# EAGLE library part PBH2UEENAGX (library halcyonmod_Switches)
E-Switch DPDT Pushbutton, Latching, Right Angle Mount Datasheet <https://www.e-switch.com/system/asset/product_line/data_sheet/52/PBH.pdf> Drawing <http://spec_sheets.e-switch.com/specs/Q960000.pdf>
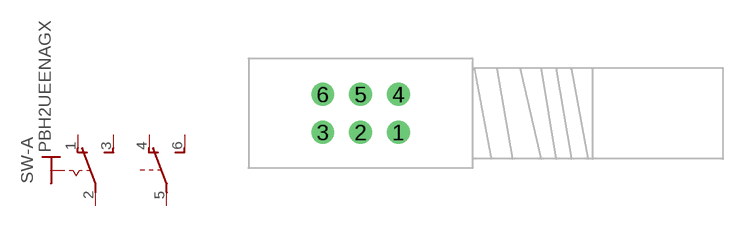
[diagram p6: symbol with the pads of PBH2UEENAGX; footprint PBH2UEENAGX]

Designator prefix SW; gates -A=KS-U -B=U2

## PBH2UEENAGX  [PBH2UEENAGX]
1  -A:O  pas
2  -A:P  pas
3  -A:S  pas
4  -B:O  pas
5  -B:P  pas
6  -B:S  pas

## Footprint PBH2UEENAGX (pad centres in mm)
drill 1: 1 2.5,-1.25; 2 0,-1.25; 3 -2.5,-1.25; 4 2.5,1.25; 5 0,1.25; 6 -2.5,1.25